# Altium integrated library Linear Technology Power Management Switching Regulator LTC1174-LTC3901.IntLib: 2647 symbols (part 299 of 364)
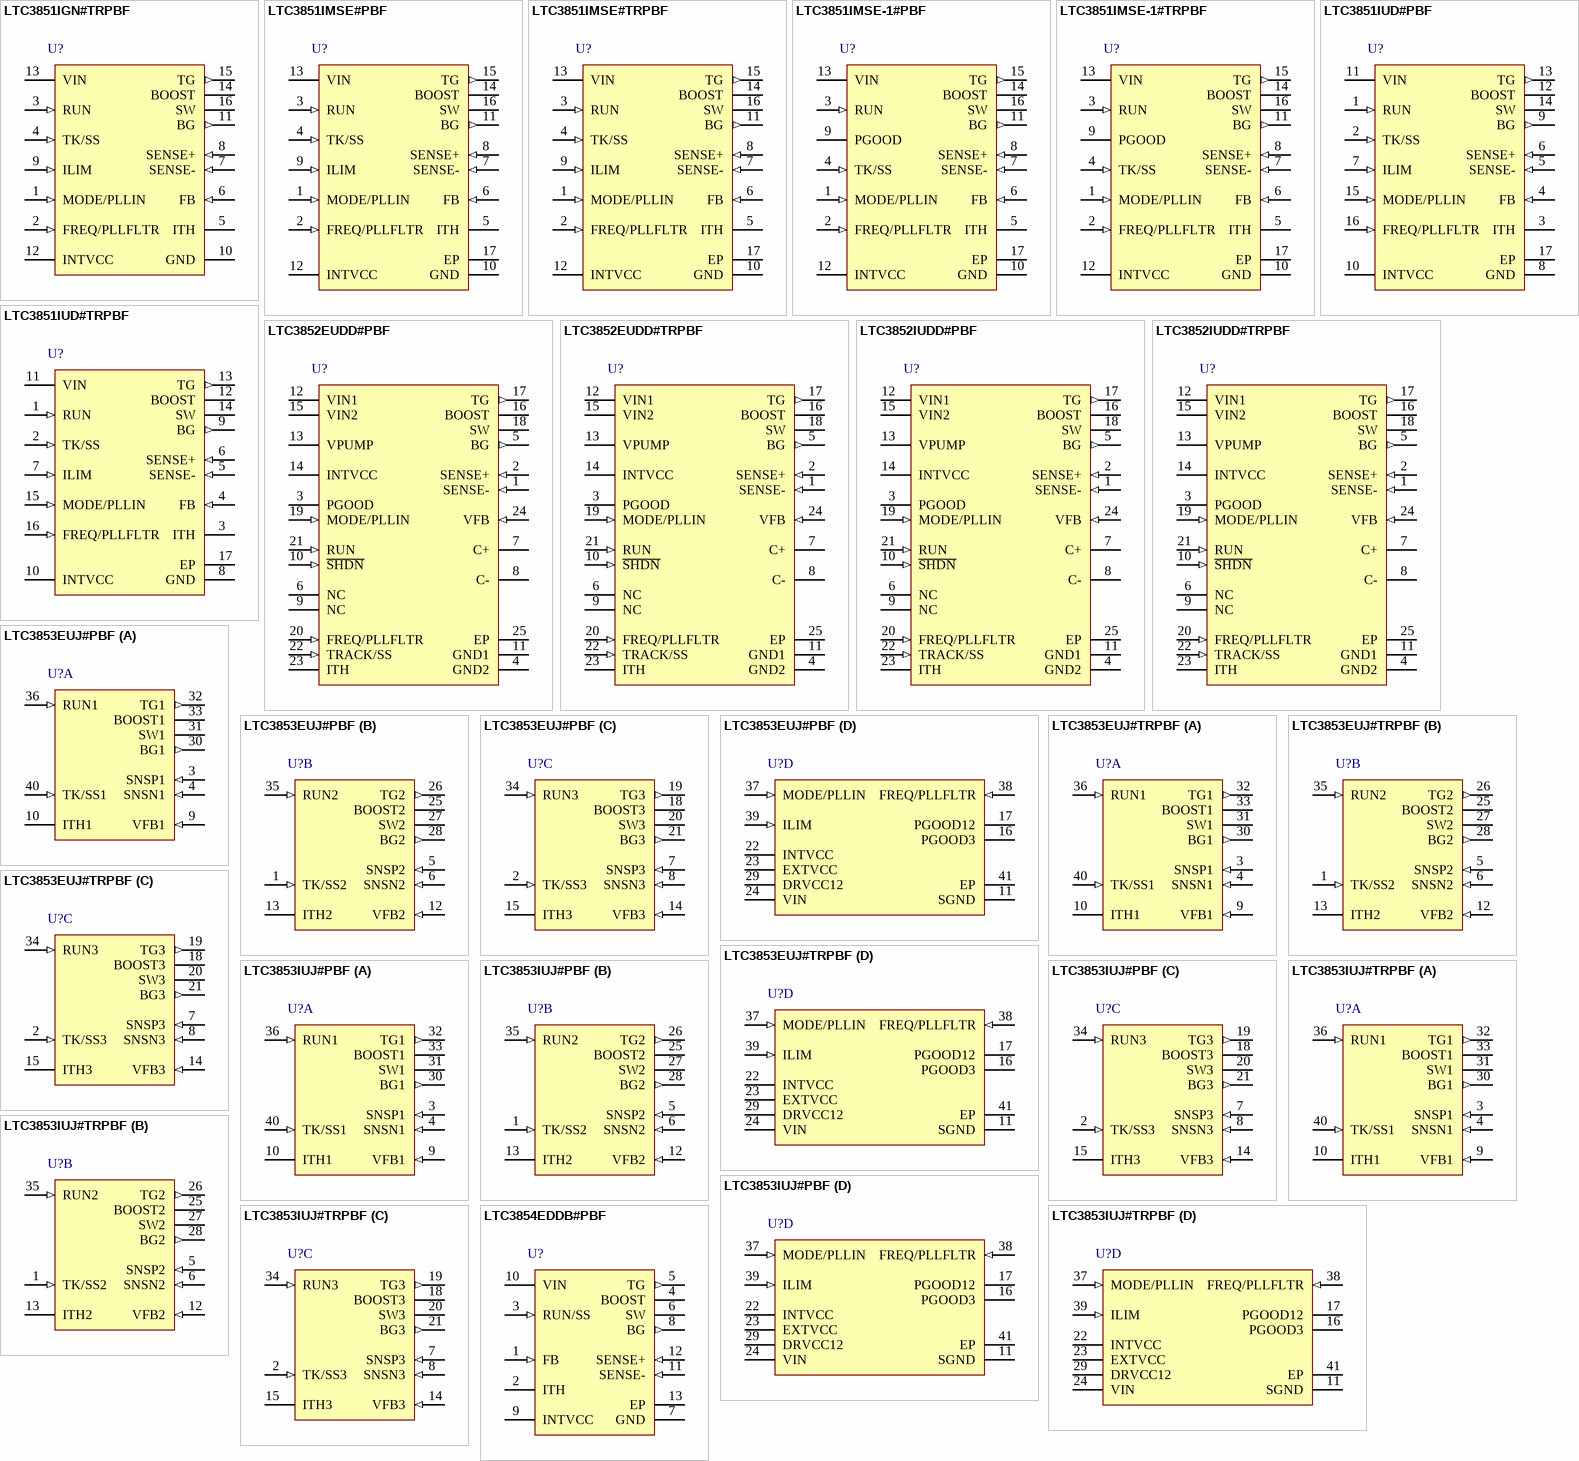
[diagram p371: symbols LTC3851IGN#TRPBF to LTC3854EDDB#PBF]

## LTC3852IUDD#TRPBF
designator U?
Low Input Voltage, Synchronous Step-Down DC/DC Controller, 24-pin QFN (UDD-24), -40 to 125 degC, Pb-Free, Tape and Reel; Manufacturer: Linear Technology; PartNumber: LTC3852IUDD#TRPBF; Frequency Sync Range: 250kHz - 750kHz; Number of Outputs: 1; PackageVersion: Rev. Ø, 05/2011; PackageReference: UDD-24; PackageDescription: 24-Pin Plastic QFN, Body 5 x 3 mm, Pitch 0.5 mm; Supplier 1: Digi-Key; Supplier Part Number 1: LTC3852IUDD#TRPBF-ND; Supplier 2: Newark; Supplier Part Number 2: 13T3949; Packing: Tape and Reel; RoHS: TRUE; Mounting Technology: Surface Mount; ComponentLink1Description: Manufacturer URL; ComponentLink1URL: http://www.linear.com/; ComponentLink2Description: Datasheet; ComponentLink2URL: http://cds.linear.com/docs/en/datasheet/3852f.pdf; ComponentLink3Description: Package Specification; ComponentLink3URL: http://cds.linear.com/docs/en/packaging/(UDD24)%20QFN%2005-08-1833%20Rev%20%C3%98.pdf
footprint LT-UDD-24_N (QFN, 24-Leads, Body 5.1x3.1mm, Pitch 0.5mm, Thermal Pad 3.65x1.65mm, IPC Medium Density)
footprint LT-UDD-24_L (QFN, 24-Leads, Body 5.1x3.1mm, Pitch 0.5mm, Thermal Pad 3.65x1.65mm, IPC High Density)
footprint LT-UDD-24_M (QFN, 24-Leads, Body 5.1x3.1mm, Pitch 0.5mm, Thermal Pad 3.65x1.65mm, IPC Low Density)
pins: 1 SENSE- (in) "The (-) Input to the Current Sense Comparators. Kelvin connect to VOUT at the current sense resistor or, if DCR sensing is used, at the inductor.", 2 SENSE+ (in) "Current Sense Comparator Noninverting Input. The (+) input to the current comparator is normally connected to the DCR sensing network or current sensing resistor.", 3 PGOOD (oc) "Power Good Indicator Output. Open drain logic out that is pulled to ground when the output voltage exceeds the +/-10% regulation window, after the internal 17us power bad mask timer expires.", 4 GND2 (power) "Buck Controller Ground. All small-signal components and compensation components should be Kelvin connected to this ground. The (-) terminal of CINTVCC should be closely connected to this pin. The exposed pad must be soldered (See Datasheet)", 5 BG (out) "Bottom Gate Driver Output. This pin drives the gate of the bottom N-channel MOSFET between GND and INTVCC.", 6 NC "No Connection", 7 C+ "Flying Capacitor Positive Terminal.", 8 C- "Flying Capacitor Negative Terminal.", 9 NC "No Connection", 10 ~{SHDN} (in) "Active Low Shutdown Input. A low on S\H\D\N\ disables the charge pump. This pin must not be allowed to float.", 11 GND1 (power) "Charge Pump Ground. The (-) terminals of CIN and CVPUMP should be closely connected to this pin.", 12 VIN1 (power) "Input Supply Voltage to Charge Pump. VIN1 should be bypassed with a 1uF to 4.7uF low ESR ceramic capacitor.", 13 VPUMP (power) "Regulated Output Voltage from Charge Pump. For best performance, VPUMP should be bypassed with a low ESR ceramic capacitor providing at least 2.2uF of capacitance as close to the pin as possible.", 14 INTVCC (power) "Gate Drive Supply. The MOSFET drivers and internal logic are powered from this voltage. Bypass this pin to GND with a minimum 2.2uF low ESR tantalum or ceramic capacitor, CINTVCC.", 15 VIN2 (power) "Main Supply Pin for Step-Down Controller. A bypass capacitor should be tied between this pin and the GND2 pin.", 16 BOOST "Boosted Floating Driver Supply. The (+) terminal of the booststrap capacitor is connected to this pin. This pin swings from a diode voltage drop below INTVCC up to VIN1 + INTVCC.", 17 TG (out) "Top Gate Driver Output. This is the output of a floating driver with a voltage swing equal to INTVCC superimposed on the switch node voltage.", 18 SW "Switch Node Connection to the Inductor. Voltage swing at this pin is from a diode (external) voltage drop below ground to the buck regulator power stage VIN.", 19 MODE/PLLIN (in) "Forced Continuous Mode, Burst Mode operation or Pulse-Skipping Mode Selection Pin and External Synchronization Input to Phase Detector Pin. Connect this pin to INTVCC to force continuous conduction mode of operation. Connect (See Datasheet)", 20 FREQ/PLLFLTR (in) "The phase-locked loop’s lowpass filter is tied to this pin. Alternatively, a resistor can be connected between this pin and GND2 to vary the frequency of the internal oscillator.", 21 RUN (in) "Run Control Input. Forcing the pin below 1.25V shuts down the step-down controller. There is a 2uA pull-up current on this pin.", 22 TRACK/SS (in) "Output Voltage Tracking and Soft-Start Input. A capacitor to ground at this pin sets the ramp rate for the output voltage. An internal soft-start current of 1uA charges this capacitor.", 23 ITH "Error Amplifier Output and Switching Regulator Compensation Point. The current comparator input threshold increases with this control voltage.", 24 VFB (in) "Error Amplifier Feedback Input. This pin receives the remotely sensed feedback voltage from an external resistive divider across the output.", 25 EP (power) "Ground. Must be soldered to PCB, providing a local ground for the IC."